# Altium schematic symbol library USB.SchLib: 1 symbol
Pins are listed as number, name and electrical type; pins without a type are passive.

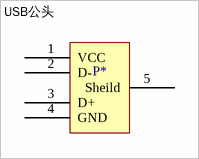
[diagram p0: symbol USB公头]

## USB公头
designator P*
footprint USB-A公
pins: 1 VCC, 2 D-, 3 D+, 4 GND, 5 Sheild